# Altium footprint library JFD_Cap.PcbLib: 7 footprints
Each footprint in its own frame and in the unit in brackets; x right, y up, seen from the top. Pads: shape width x height; smd on the part's side, far side on the other; paste and mask are expansions set on the pad; w line width, h text height; cw(c..) or ccw(c..) is an arc to the next point about the centre after c.
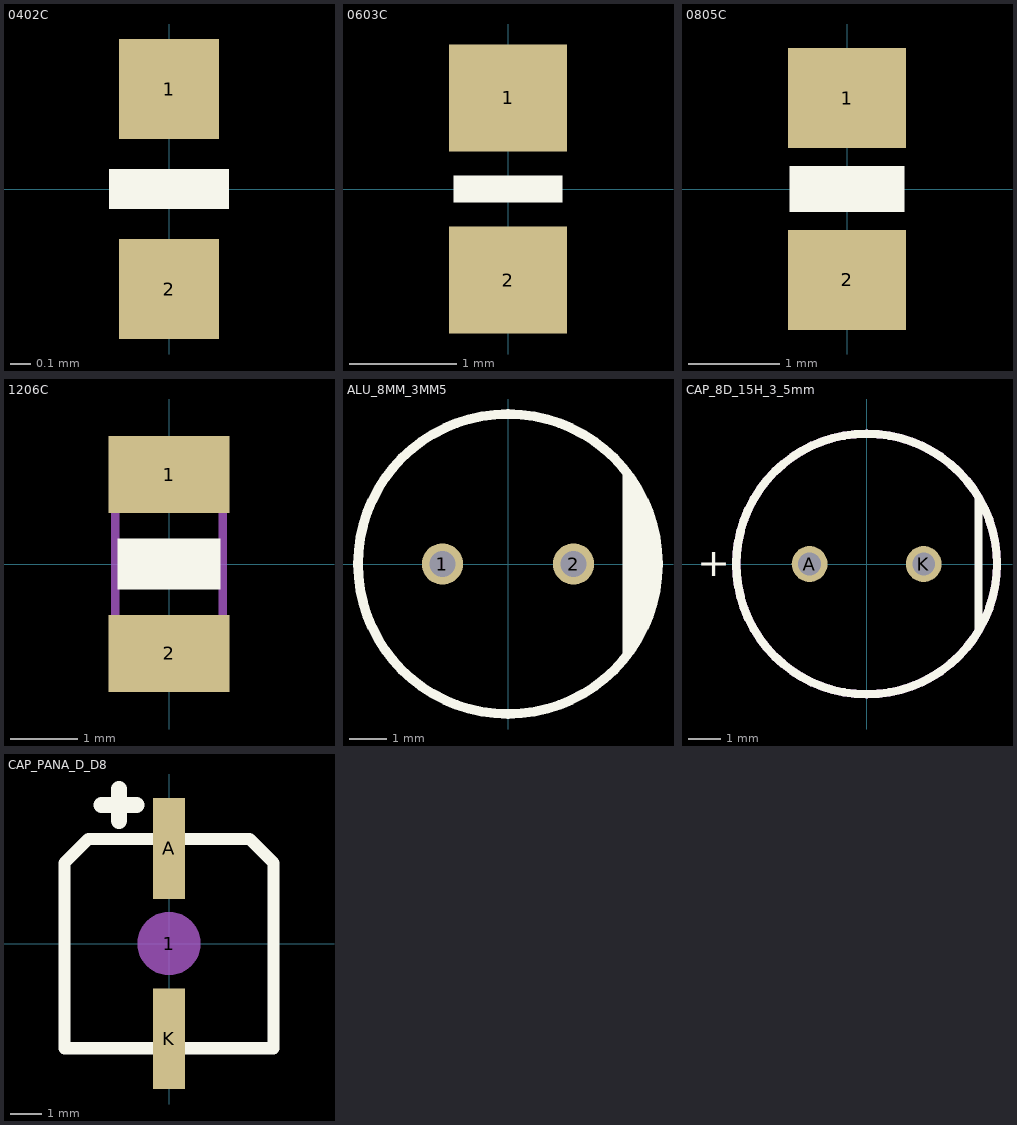
[diagram p0: the footprints below, top view; thin cyan lines are the x and y axes]

## 0402C [mm] "0402"
height 0.5
pads (2):
  rect 0.5x0.5 smd: 1(0,0.5) 2(0,-0.5)
Top Overlay:
  region: -0.3,0.1 -0.3,-0.1 0.3,-0.1 0.3,0.1
3D body: height 0.5, standoff 0, extent -0.25,-0.5 0.25,0.5

## 0603C [mm] "0603"
height 0.8
pads (2):
  rect 1.1x1 smd: 1(0,0.85) 2(0,-0.85)
Top Overlay:
  region: -0.508,0.127 -0.508,-0.127 0.508,-0.127 0.508,0.127
3D body: height 0.8, standoff 0, extent -0.4,-0.8 0.4,0.8

## 0805C [mm]
height 1.35
pads (2):
  rect 1.3x1.1 smd: 1(0,1) 2(0,-1)
Top Overlay:
  region: -0.635,0.254 -0.635,-0.254 0.635,-0.254 0.635,0.254
3D body: height 1.35, standoff 0, extent -0.61,-1.016 0.61,1.016

## 1206C [mm] "1206"
height 1
pads (2):
  rect 1.8x1.15 smd: 1(0,1.33) 2(0,-1.33)
Top Overlay:
  region: -0.762,0.381 -0.762,-0.381 0.762,-0.381 0.762,0.381
Mechanical 13:
  lines w0.125: -0.8,-1.6 0.8,-1.6 0.8,1.6 -0.8,1.6 -0.8,-1.6
3D body: height 1, standoff 0, extent -0.8,-1.6 0.8,1.6

## ALU_8MM_3MM5 [mm] "Dia 8mm, Lead spacing 3.5mm"
height 11.5
pads (2):
  round 1.1 hole 0.7: 1(-1.75,0) 2(1.75,0)
Top Overlay:
  circle w0.254: c0,0 r4
  region: 3.175,2.159 3.429,2.159 3.429,2.032 3.556,2.032 3.556,1.778 3.683,1.778 3.683,1.524 3.81,1.524 3.81,1.016 3.937,1.016 3.937,-1.143 3.81,-1.143 3.81,-1.524 3.683,-1.524 3.683,-1.778 3.556,-1.778 3.556,-2.032 3.429,-2.032 3.429,-2.159 3.175,-2.159
  lines w0.254: 3.175,-2.413 3.175,2.413
Mechanical 13:
  circle w0.152: c0,0 r4
3D body: height 11.5, standoff 0, extent -3.937,-3.937 4.031,4.047

## CAP_8D_15H_3_5mm [mm]
height 15
pads (2):
  round 1.1 hole 0.7: A(-1.75,0) K(1.75,0)
Top Overlay:
  circle w0.254: c0,0 r4
  lines w0.25: 3.429,-2.032 3.429,2.032
  text "+" at -5.207,-0.381 h0.89
Mechanical 13:
  circle w0.254: c0,0 r4
3D body: height 15, standoff -2, extent -4,-4 4,4

## CAP_PANA_D_D8 [mm]
height 7.7
pads (3):
  round 2 on Mech1: 1(0,0)
  rect 1x3.175 smd: A(0,3) K(0,-3)
Top Overlay:
  lines w0.381: -3.302,-3.302 -3.302,2.54 -2.54,3.302 2.54,3.302 3.302,2.54 3.302,-3.302 -3.302,-3.302
  lines w0.508: -2.125,4.374 -1.025,4.374 ; -1.575,3.874 -1.575,4.874
3D body: height 8, standoff 0, extent -3.4,-3.9 3.4,3.9